# EAGLE library part SN74VC4245A (library Cool_Electricity)
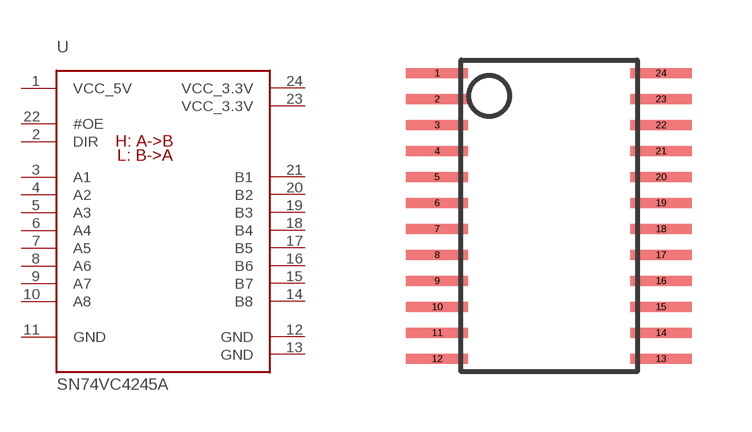
[diagram p7: symbol with the pads of TSSOP24_TI; footprint TSSOP24_TI]

Designator prefix U

## SN74VC4245A  [TSSOP24_TI]
1  VCC_5V
2  DIR
3  A1
4  A2
5  A3
6  A4
7  A5
8  A6
9  A7
10  A8
11  GND
12  GND
13  GND
14  B8
15  B7
16  B6
17  B5
18  B4
19  B3
20  B2
21  B1
22  #OE
23  VCC_3.3V
24  VCC_3.3V

## Footprint TSSOP24_TI (pad centres in mm)
smd 1.55 x 0.25: 1 -2.8,3.575; 2 -2.8,2.925; 3 -2.8,2.275; 4 -2.8,1.625; 5 -2.8,0.975; 6 -2.8,0.325; 7 -2.8,-0.325; 8 -2.8,-0.975; 9 -2.8,-1.625; 10 -2.8,-2.275; 11 -2.8,-2.925; 12 -2.8,-3.575; 13 2.8,-3.575; 14 2.8,-2.925; 15 2.8,-2.275; 16 2.8,-1.625; 17 2.8,-0.975; 18 2.8,-0.325; 19 2.8,0.325; 20 2.8,0.975; 21 2.8,1.625; 22 2.8,2.275; 23 2.8,2.925; 24 2.8,3.575